# Altium schematic symbol library Trimpot.Schlib: 4 symbols
Pins are listed as number, name and electrical type; pins without a type are passive.

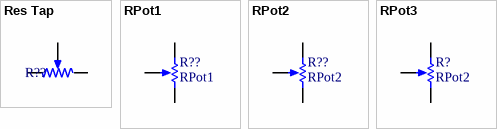
[diagram p0: symbols Res Tap to RPot3]

## Res Tap
designator R??  (value not drawn)
Resistor Trimpot (Tapped)
pins: 1, 2, 3

## RPot1
designator R??
Potentiometer
footprint VR3_T18 (Tapped Resistor; 3 Leads)
pins: 1 TOP, 2 BOT, 3 TAP
1 alternate drawing of the same symbol

## RPot2
designator R??
Potentiometer
footprint VR5_T63 (Potentiometer; 3 Leads)
pins: 1 TOP, 2 BOT, 3 TAP
1 alternate drawing of the same symbol

## RPot3
designator R?, comment RPot2
Potentiometer
footprint CT94EX103 (TRIMMER 10K OHM 0.5W PC PIN SIDE)
pins: 1 TOP, 2 BOT, 3 TAP
1 alternate drawing of the same symbol